# EAGLE library part MAX5023TASA-T (library MAX5023)
VOLTAGE REGULATOR 3.3V
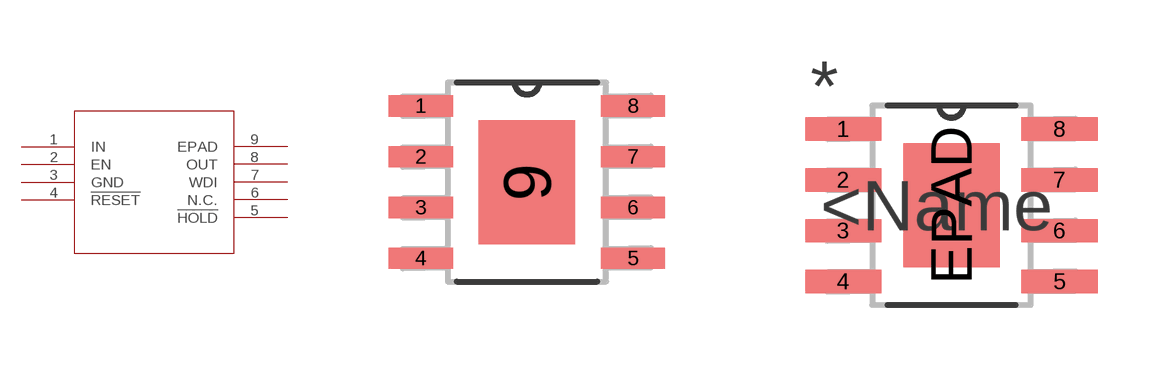
[diagram p0: symbol with the pads of 21-0111D_SBE-14; footprints 21-0111D_SBE-14, 21-0111D_SBE-14-M]

Designator prefix U

## MAX5023TASA-T (MANUFACTURER_PART_NUMBER: max5023tasat; VENDOR: MAXIM)  [21-0111D_SBE-14]
1  IN  in
2  EN  in
3  GND  pwr
4  !RESET  out
5  !HOLD  in
6  N.C.  nc
7  WDI  in
8  OUT  out
9  EPAD  pas

## MAX5023TASA-T21-0111D_SBE-14-M (MANUFACTURER_PART_NUMBER: max5023tasat; VENDOR: MAXIM)  [21-0111D_SBE-14-M]
1  IN  in
2  EN  in
3  GND  pwr
4  !RESET  out
5  !HOLD  in
6  N.C.  nc
7  WDI  in
8  OUT  out
EPAD  EPAD  pas

## MAX5023TASA-T21-0111D_SBE-14-L (MANUFACTURER_PART_NUMBER: max5023tasat; VENDOR: MAXIM)  [21-0111D_SBE-14-L]
Pads as for 21-0111D_SBE-14-M

## Footprint 21-0111D_SBE-14 (pad centres in mm)
smd 1.6 x 0.533: 1 -2.654,1.905; 2 -2.654,0.635; 3 -2.654,-0.635; 4 -2.654,-1.905; 5 2.654,-1.905; 6 2.654,-0.635; 7 2.654,0.635; 8 2.654,1.905
smd 2.413 x 3.099: 9 0,0

## Footprint 21-0111D_SBE-14-M (pad centres in mm)
smd 1.905 x 0.584: 1 -2.705,1.905; 2 -2.705,0.635; 3 -2.705,-0.635; 4 -2.705,-1.905; 5 2.705,-1.905; 6 2.705,-0.635; 7 2.705,0.635; 8 2.705,1.905
smd 2.413 x 3.099: EPAD 0,0

## Footprint 21-0111D_SBE-14-L (pad centres in mm)
smd 1.295 x 0.483: 1 -2.603,1.905; 2 -2.603,0.635; 3 -2.603,-0.635; 4 -2.603,-1.905; 5 2.603,-1.905; 6 2.603,-0.635; 7 2.603,0.635; 8 2.603,1.905
smd 2.413 x 3.099: EPAD 0,0